# Altium schematic symbol library lumiled.SCHLIB: 3 symbols
Pins are listed as number, name and electrical type; pins without a type are passive.

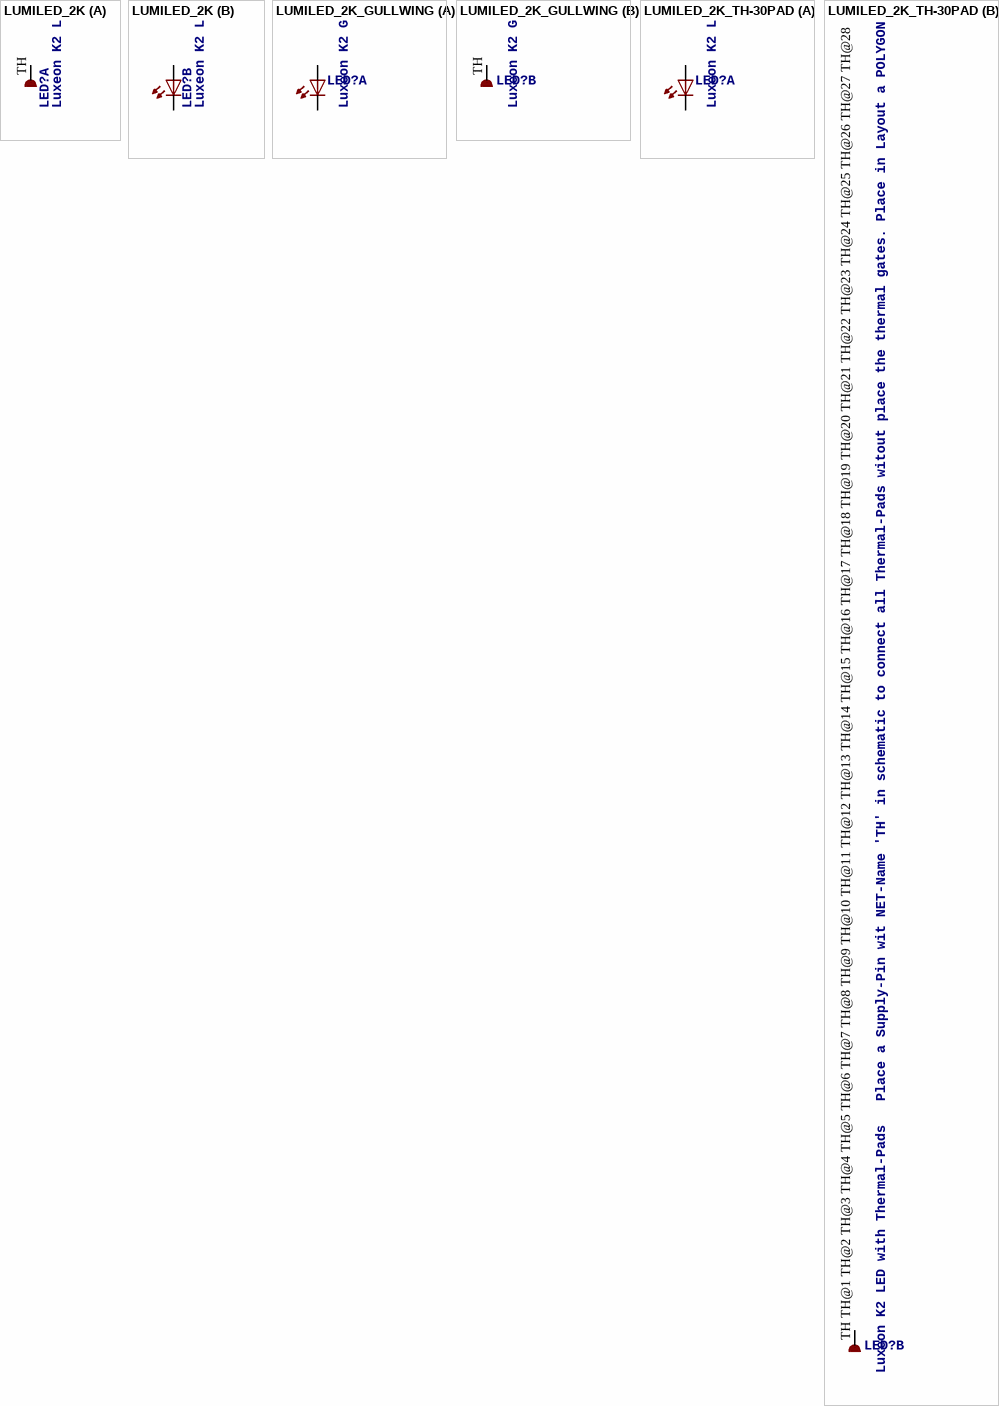
[diagram p0: symbols LUMILED_2K to LUMILED_2K_TH-30PAD]

## LUMILED_2K
designator LED?, comment Luxeon K2 LED   Display layer 93, Pins, and connect all contact points with a net. The thermal pads are defined in a separate gate with addlevel REQUEST. Draw a net named 'TH' and connect all thermal pads with it. Please read the Package's Description about DRC settings.   Source: 0041 Luxeon K2 on FR4 with open vias.pdf DS60.pdf
MPN: LXK2-PB14-N00; OC_FARNELL: 1225059; OC_NEWARK: 05M0599
footprint LUMILED_2K
part A pins: TH
part B pins: 1 2 A, 3 4 C

## LUMILED_2K_GULLWING
designator LED?, comment Luxeon K2 Gullwing LED   Source: 0041 Luxeon K2 on FR4 with open vias.pdf DS60.pdf
footprint LUMILED_2K_GULLWING
part A pins: 2 A, 4 C
part B pins: TH

## LUMILED_2K_TH-30PAD
designator LED?, comment Luxeon K2 LED with Thermal-Pads   Place a Supply-Pin wit NET-Name 'TH' in schematic to connect all Thermal-Pads witout place the thermal gates. Place in Layout a POLYGON named 'TH' to generate a great thermal copper connected to the thermal pads.   Source: 0041 Luxeon K2 on FR4 with open vias.pdf DS60.pdf
MPN: LXK2-PB14-N00; OC_FARNELL: 1225059; OC_NEWARK: 05M0599
footprint LUMILED_2K_TH-PAD
part A pins: 1 2 A, 3 4 C
part B pins: TH TH@1 TH@2 TH@3 TH@4 TH@5 TH@6 TH@7 TH@8 TH@9 TH@10 TH@11 TH@12 TH@13 TH@14 TH@15 TH@16 TH@17 TH@18 TH@19 TH@20 TH@21 TH@22 TH@23 TH@24 TH@25 TH@26 TH@27 TH@28 TH